# Altium schematic symbol library Generic PFET.Schlib: 1 symbol
Pins are listed as number, name and electrical type; pins without a type are passive.

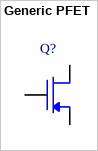
[diagram p0: symbol Generic PFET]

## Generic PFET
designator Q?
Generic PFET
pins: 3 S, 4 G, 5 D